# Altium footprint library 0402.PcbLib: 2 footprints
Each footprint in its own frame and in the unit in brackets; x right, y up, seen from the top. Pads: shape width x height; smd on the part's side, far side on the other; paste and mask are expansions set on the pad; w line width, h text height; cw(c..) or ccw(c..) is an arc to the next point about the centre after c.
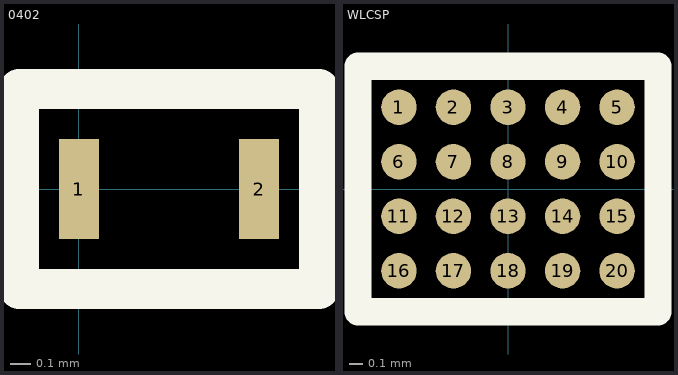
[diagram p0: the footprints below, top view; thin cyan lines are the x and y axes]

## 0402 [mm]
pads (2):
  rect 0.2x0.5 smd: 1(0,0) 2(0.9,0)
Top Overlay:
  lines w0.2: -0.3,-0.5 1.2,-0.5 1.2,0.5 -0.3,0.5 -0.3,-0.5

## WLCSP [mm]
pads (20):
  round 0.26 smd: 1(-0.8,0.6) 2(-0.4,0.6) 3(0,0.6) 4(0.4,0.6) 5(0.8,0.6) 6(-0.8,0.2) 7(-0.4,0.2) 8(0,0.2) 9(0.4,0.2) 10(0.8,0.2) 11(-0.8,-0.2) 12(-0.4,-0.2) 13(0,-0.2) 14(0.4,-0.2) 15(0.8,-0.2) 16(-0.8,-0.6) 17(-0.4,-0.6) 18(0,-0.6) 19(0.4,-0.6) 20(0.8,-0.6)
Top Overlay:
  lines w0.2: -1.1,-0.9 1.1,-0.9 1.1,0.9 -1.1,0.9 -1.1,-0.9